# EAGLE library part MDIN06-DUAL (library xess)
Dual 6-Pin Mini-DIN Female Socket
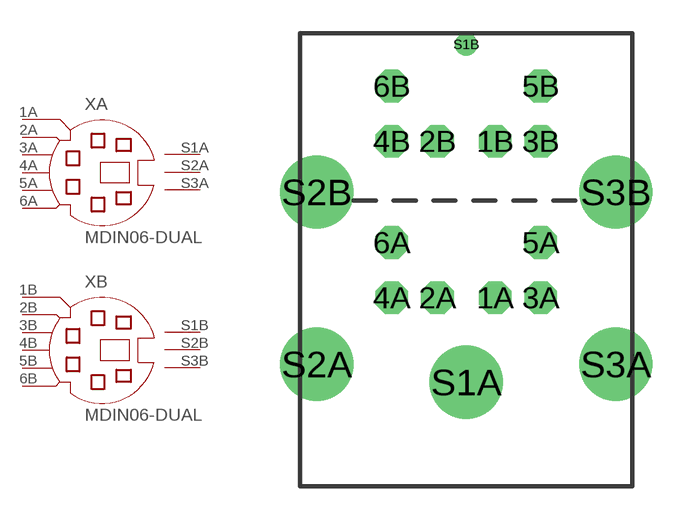
[diagram p144: symbol with the pads of MDIN06-DUAL; footprint MDIN06-DUAL]

Designator prefix X; gates A=MDIN06 B=MDIN06

## MDIN06-DUAL (DIGIKEY#: 786580-1-ND; MANF: TE Connectivity; MANF#: 786580-1)  [MDIN06-DUAL]
1A  A:1  pas
1B  B:1  pas
2A  A:2  pas
2B  B:2  pas
3A  A:3  pas
3B  B:3  pas
4A  A:4  pas
4B  B:4  pas
5A  A:5  pas
5B  B:5  pas
6A  A:6  pas
6B  B:6  pas
S1A  A:S1
S1B  B:S1
S2A  A:S2
S2B  B:S2
S3A  A:S3
S3B  B:S3

## Footprint MDIN06-DUAL (pad centres in mm)
drill 0.97 octagon: 1A 1.3,8.51; 1B 1.3,15.57; 2A -1.3,8.51; 2B -1.3,15.57; 3A 3.36,8.51; 3B 3.36,15.57; 4A -3.36,8.51; 4B -3.36,15.57; 5A 3.36,11; 5B 3.36,18.06; 6A -3.36,11; 6B -3.36,18.06
drill 2.29 round: S1A 0,4.699; S2A -6.75,5.51; S2B -6.75,13.28; S3A 6.75,5.51; S3B 6.75,13.28
drill 0.5 round: S1B 0,19.939